# Altium footprint library Castellated.PcbLib: 1 footprints
Each footprint in its own frame and in the unit in brackets; x right, y up, seen from the top. Pads: shape width x height; smd on the part's side, far side on the other; paste and mask are expansions set on the pad; w line width, h text height; cw(c..) or ccw(c..) is an arc to the next point about the centre after c.
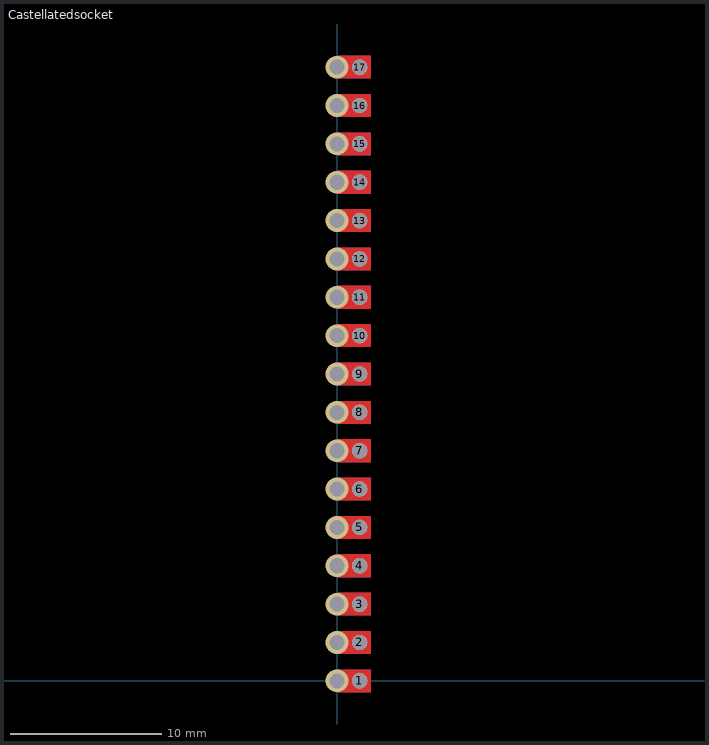
[diagram p0: the footprint, top view; thin cyan lines are the x and y axes]

## Castellatedsocket [mm]
pads (17):
  round 1.025 hole 1: 1(1.5,0) 2(1.5,2.54) 3(1.5,5.08) 4(1.5,7.62) 5(1.5,10.16) 6(1.5,12.7) 7(1.5,15.24) 8(1.5,17.78) 9(1.5,20.32) 10(1.5,22.86) 11(1.5,25.4) 12(1.5,27.94) 13(1.5,30.48) 14(1.5,33.02) 15(1.5,35.56) 16(1.5,38.1) 17(1.5,40.64)
via 0,2.54 diameter 1.5 hole 1
via 0,0 diameter 1.5 hole 1
via 0,5.08 diameter 1.5 hole 1
via 0,7.62 diameter 1.5 hole 1
via 0,10.16 diameter 1.5 hole 1
via 0,12.7 diameter 1.5 hole 1
via 0,15.24 diameter 1.5 hole 1
via 0,17.78 diameter 1.5 hole 1
via 0,20.32 diameter 1.5 hole 1
via 0,22.86 diameter 1.5 hole 1
via 0,25.4 diameter 1.5 hole 1
via 0,27.94 diameter 1.5 hole 1
via 0,30.48 diameter 1.5 hole 1
via 0,33.02 diameter 1.5 hole 1
via 0,35.56 diameter 1.5 hole 1
via 0,38.1 diameter 1.5 hole 1
via 0,40.64 diameter 1.5 hole 1
Top Layer:
  region: 2.25,1.79 1.5,1.79 0,1.79 0,3.29 2.25,3.29
  region: 2.25,-0.75 1.5,-0.75 0,-0.75 0,0.75 2.25,0.75
  region: 2.25,4.33 1.5,4.33 0,4.33 0,5.83 2.25,5.83
  region: 2.25,6.87 1.5,6.87 0,6.87 0,8.37 2.25,8.37
  region: 2.25,9.41 1.5,9.41 0,9.41 0,10.91 2.25,10.91
  region: 2.25,11.95 1.5,11.95 0,11.95 0,13.45 2.25,13.45
  region: 2.25,14.49 1.5,14.49 0,14.49 0,15.99 2.25,15.99
  region: 2.25,17.03 1.5,17.03 0,17.03 0,18.53 2.25,18.53
  region: 2.25,19.57 1.5,19.57 0,19.57 0,21.07 2.25,21.07
  region: 2.25,22.11 1.5,22.11 0,22.11 0,23.61 2.25,23.61
  region: 2.25,24.65 1.5,24.65 0,24.65 0,26.15 2.25,26.15
  region: 2.25,27.19 1.5,27.19 0,27.19 0,28.69 2.25,28.69
  region: 2.25,29.73 1.5,29.73 0,29.73 0,31.23 2.25,31.23
  region: 2.25,32.27 1.5,32.27 0,32.27 0,33.77 2.25,33.77
  region: 2.25,34.81 1.5,34.81 0,34.81 0,36.31 2.25,36.31
  region: 2.25,37.35 1.5,37.35 0,37.35 0,38.85 2.25,38.85
  region: 2.25,39.89 1.5,39.89 0,39.89 0,41.39 2.25,41.39
Bottom Layer:
  region: 2.25,1.79 1.5,1.79 0,1.79 0,3.29 2.25,3.29
  region: 2.25,-0.75 1.5,-0.75 0,-0.75 0,0.75 2.25,0.75
  region: 2.25,4.33 1.5,4.33 0,4.33 0,5.83 2.25,5.83
  region: 2.25,6.87 1.5,6.87 0,6.87 0,8.37 2.25,8.37
  region: 2.25,9.41 1.5,9.41 0,9.41 0,10.91 2.25,10.91
  region: 2.25,11.95 1.5,11.95 0,11.95 0,13.45 2.25,13.45
  region: 2.25,14.49 1.5,14.49 0,14.49 0,15.99 2.25,15.99
  region: 2.25,17.03 1.5,17.03 0,17.03 0,18.53 2.25,18.53
  region: 2.25,19.57 1.5,19.57 0,19.57 0,21.07 2.25,21.07
  region: 2.25,22.11 1.5,22.11 0,22.11 0,23.61 2.25,23.61
  region: 2.25,24.65 1.5,24.65 0,24.65 0,26.15 2.25,26.15
  region: 2.25,27.19 1.5,27.19 0,27.19 0,28.69 2.25,28.69
  region: 2.25,29.73 1.5,29.73 0,29.73 0,31.23 2.25,31.23
  region: 2.25,32.27 1.5,32.27 0,32.27 0,33.77 2.25,33.77
  region: 2.25,34.81 1.5,34.81 0,34.81 0,36.31 2.25,36.31
  region: 2.25,37.35 1.5,37.35 0,37.35 0,38.85 2.25,38.85
  region: 2.25,39.89 1.5,39.89 0,39.89 0,41.39 2.25,41.39